# Altium schematic symbol library WR-TBL_Spring Clamp.SchLib: 257 symbols (part 1 of 4)
Pins are listed as number, name and electrical type; pins without a type are passive.

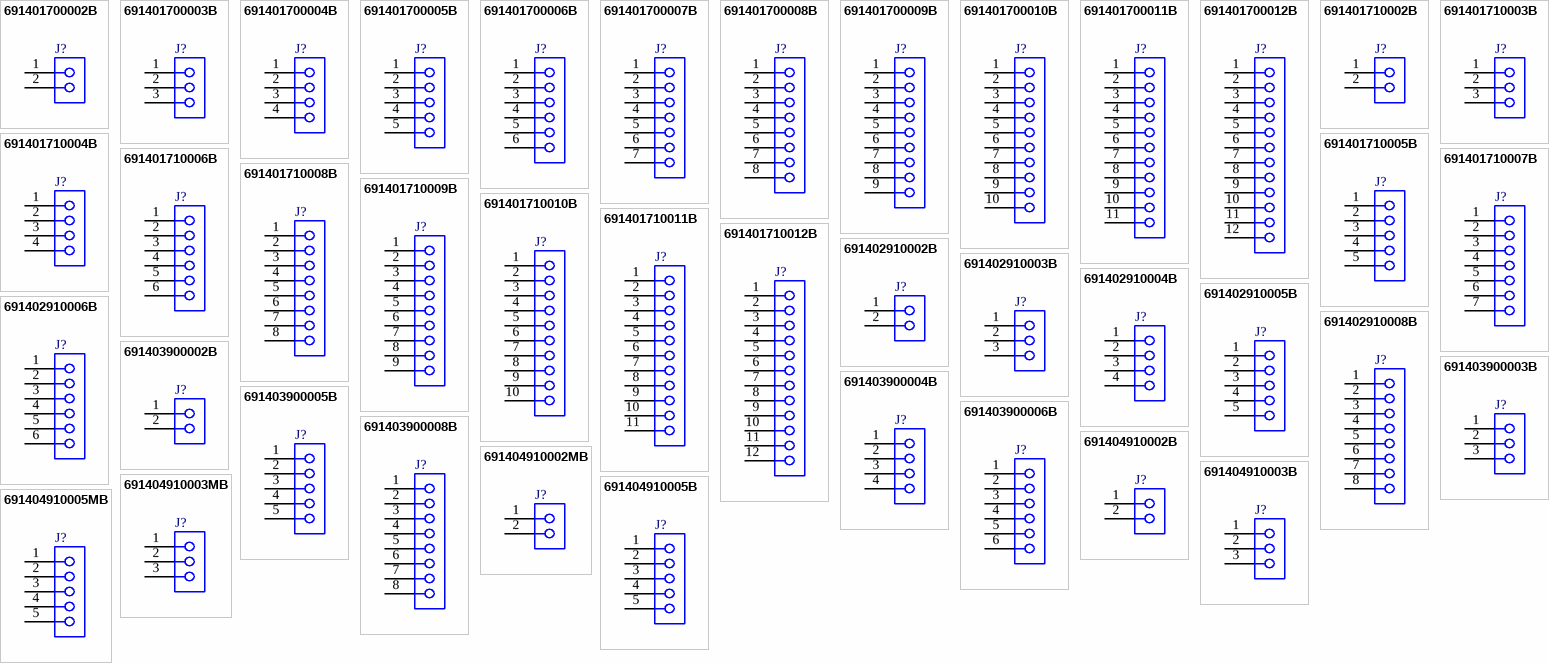
[diagram p0: symbols 691401700002B to 691404910005MB]

## 691401700002B
designator J?
WR-TBL Serie 401B Vertical Entry, Screwless, pitch 5mm, 2p; Part Number: 691401700002B; Compliance: RoHS; Modularity: No; PCB/Cable/Panel: PCB; Pin Number: 2; Rated Current [UL]: 10A; Working Voltage [UL]: 300VAC; ComponentLink1Description: Manufacturer; ComponentLink1URL: http://www.we-online.de; ComponentLink2URL: https://katalog.we-online.de/em/datasheet/691401700002B.pdf; ComponentLink2Description: Datasheet; Mounting Technology: THT; Packaging: Box; Operating Temperature: -40 to +105degC; Pitch: 5mm; Published Date: October 2019; Type: Vertical; Publisher: Wurth Elektronik; Application: Screwless
footprint 691401700002B
pins: 1, 2

## 691401700003B
designator J?
WR-TBL Serie 401B Vertical Entry, Screwless, pitch 5mm, 3p; Part Number: 691401700003B; Compliance: RoHS; Modularity: No; PCB/Cable/Panel: PCB; Pin Number: 3; Rated Current [UL]: 10A; Working Voltage [UL]: 300VAC; ComponentLink1Description: Manufacturer; ComponentLink1URL: http://www.we-online.de; ComponentLink2URL: https://katalog.we-online.de/em/datasheet/691401700003B.pdf; ComponentLink2Description: Datasheet; Mounting Technology: THT; Packaging: Box; Operating Temperature: -40 to +105degC; Pitch: 5mm; Published Date: October 2019; Type: Vertical; Publisher: Wurth Elektronik; Application: Screwless
footprint 691401700003B
pins: 1, 2, 3

## 691401700004B
designator J?
WR-TBL Serie 401B Vertical Entry, Screwless, pitch 5mm, 4p; Part Number: 691401700004B; Compliance: RoHS; Modularity: No; PCB/Cable/Panel: PCB; Pin Number: 4; Rated Current [UL]: 10A; Working Voltage [UL]: 300VAC; ComponentLink1Description: Manufacturer; ComponentLink1URL: http://www.we-online.de; ComponentLink2URL: https://katalog.we-online.de/em/datasheet/691401700004B.pdf; ComponentLink2Description: Datasheet; Mounting Technology: THT; Packaging: Box; Operating Temperature: -40 to +105degC; Pitch: 5mm; Published Date: October 2019; Type: Vertical; Publisher: Wurth Elektronik; Application: Screwless
footprint 691401700004B
pins: 1, 2, 3, 4

## 691401700005B
designator J?
WR-TBL Serie 401B Vertical Entry, Screwless, pitch 5mm, 5p; Part Number: 691401700005B; Compliance: RoHS; Modularity: No; PCB/Cable/Panel: PCB; Pin Number: 5; Rated Current [UL]: 10A; Working Voltage [UL]: 300VAC; ComponentLink1Description: Manufacturer; ComponentLink1URL: http://www.we-online.de; ComponentLink2URL: https://katalog.we-online.de/em/datasheet/691401700005B.pdf; ComponentLink2Description: Datasheet; Mounting Technology: THT; Packaging: Box; Operating Temperature: -40 to +105degC; Pitch: 5mm; Published Date: October 2019; Type: Vertical; Publisher: Wurth Elektronik; Application: Screwless
footprint 691401700005B
pins: 1, 2, 3, 4, 5

## 691401700006B
designator J?
WR-TBL Serie 401B Vertical Entry, Screwless, pitch 5mm, 6p; Part Number: 691401700006B; Compliance: RoHS; Modularity: No; PCB/Cable/Panel: PCB; Pin Number: 6; Rated Current [UL]: 10A; Working Voltage [UL]: 300VAC; ComponentLink1Description: Manufacturer; ComponentLink1URL: http://www.we-online.de; ComponentLink2URL: https://katalog.we-online.de/em/datasheet/691401700006B.pdf; ComponentLink2Description: Datasheet; Mounting Technology: THT; Packaging: Box; Operating Temperature: -40 to +105degC; Pitch: 5mm; Published Date: October 2019; Type: Vertical; Publisher: Wurth Elektronik; Application: Screwless
footprint 691401700006B
pins: 1, 2, 3, 4, 5, 6

## 691401700007B
designator J?
WR-TBL Serie 401B Vertical Entry, Screwless, pitch 5mm, 7p; Part Number: 691401700007B; Compliance: RoHS; Modularity: No; PCB/Cable/Panel: PCB; Pin Number: 7; Rated Current [UL]: 10A; Working Voltage [UL]: 300VAC; ComponentLink1Description: Manufacturer; ComponentLink1URL: http://www.we-online.de; ComponentLink2URL: https://katalog.we-online.de/em/datasheet/691401700007B.pdf; ComponentLink2Description: Datasheet; Mounting Technology: THT; Packaging: Box; Operating Temperature: -40 to +105degC; Pitch: 5mm; Published Date: October 2019; Type: Vertical; Publisher: Wurth Elektronik; Application: Screwless
footprint 691401700007B
pins: 1, 2, 3, 4, 5, 6, 7

## 691401700008B
designator J?
WR-TBL Serie 401B Vertical Entry, Screwless, pitch 5mm, 8p; Part Number: 691401700008B; Compliance: RoHS; Modularity: No; PCB/Cable/Panel: PCB; Pin Number: 8; Rated Current [UL]: 10A; Working Voltage [UL]: 300VAC; ComponentLink1Description: Manufacturer; ComponentLink1URL: http://www.we-online.de; ComponentLink2URL: https://katalog.we-online.de/em/datasheet/691401700008B.pdf; ComponentLink2Description: Datasheet; Mounting Technology: THT; Packaging: Box; Operating Temperature: -40 to +105degC; Pitch: 5mm; Published Date: October 2019; Type: Vertical; Publisher: Wurth Elektronik; Application: Screwless
footprint 691401700008B
pins: 1, 2, 3, 4, 5, 6, 7, 8

## 691401700009B
designator J?
WR-TBL Serie 401B Vertical Entry, Screwless, pitch 5mm, 9p; Part Number: 691401700009B; Compliance: RoHS; Modularity: No; PCB/Cable/Panel: PCB; Pin Number: 9; Rated Current [UL]: 10A; Working Voltage [UL]: 300VAC; ComponentLink1Description: Manufacturer; ComponentLink1URL: http://www.we-online.de; ComponentLink2URL: https://katalog.we-online.de/em/datasheet/691401700009B.pdf; ComponentLink2Description: Datasheet; Mounting Technology: THT; Packaging: Box; Operating Temperature: -40 to +105degC; Pitch: 5mm; Published Date: October 2019; Type: Vertical; Publisher: Wurth Elektronik; Application: Screwless
footprint 691401700009B
pins: 1, 2, 3, 4, 5, 6, 7, 8, 9

## 691401700010B
designator J?
WR-TBL Serie 401B Vertical Entry, Screwless, pitch 5mm, 10p; Part Number: 691401700010B; Compliance: RoHS; Modularity: No; PCB/Cable/Panel: PCB; Pin Number: 10; Rated Current [UL]: 10A; Working Voltage [UL]: 300VAC; ComponentLink1Description: Manufacturer; ComponentLink1URL: http://www.we-online.de; ComponentLink2URL: https://katalog.we-online.de/em/datasheet/691401700010B.pdf; ComponentLink2Description: Datasheet; Mounting Technology: THT; Packaging: Box; Operating Temperature: -40 to +105degC; Pitch: 5mm; Published Date: October 2019; Type: Vertical; Publisher: Wurth Elektronik; Application: Screwless
footprint 691401700010B
pins: 1, 2, 3, 4, 5, 6, 7, 8, 9, 10

## 691401700011B
designator J?
WR-TBL Serie 401B Vertical Entry, Screwless, pitch 5mm, 11p; Part Number: 691401700011B; Compliance: RoHS; Modularity: No; PCB/Cable/Panel: PCB; Pin Number: 11; Rated Current [UL]: 10A; Working Voltage [UL]: 300VAC; ComponentLink1Description: Manufacturer; ComponentLink1URL: http://www.we-online.de; ComponentLink2URL: https://katalog.we-online.de/em/datasheet/691401700011B.pdf; ComponentLink2Description: Datasheet; Mounting Technology: THT; Packaging: Box; Operating Temperature: -40 to +105degC; Pitch: 5mm; Published Date: October 2019; Type: Vertical; Publisher: Wurth Elektronik; Application: Screwless
footprint 691401700011B
pins: 1, 2, 3, 4, 5, 6, 7, 8, 9, 10, 11

## 691401700012B
designator J?
WR-TBL Serie 401B Vertical Entry, Screwless, pitch 5mm, 12p; Part Number: 691401700012B; Compliance: RoHS; Modularity: No; PCB/Cable/Panel: PCB; Pin Number: 12; Rated Current [UL]: 10A; Working Voltage [UL]: 300VAC; ComponentLink1Description: Manufacturer; ComponentLink1URL: http://www.we-online.de; ComponentLink2URL: https://katalog.we-online.de/em/datasheet/691401700012B.pdf; ComponentLink2Description: Datasheet; Mounting Technology: THT; Packaging: Box; Operating Temperature: -40 to +105degC; Pitch: 5mm; Published Date: October 2019; Type: Vertical; Publisher: Wurth Elektronik; Application: Screwless
footprint 691401700012B
pins: 1, 2, 3, 4, 5, 6, 7, 8, 9, 10, 11, 12

## 691401710002B
designator J?
WR-TBL Serie 401B Horizontal Entry, Screwless, pitch 5mm, 2p; Part Number: 691401710002B; Compliance: RoHS; Modularity: No; PCB/Cable/Panel: PCB; Pin Number: 2; Rated Current [UL]: 10A; Working Voltage [UL]: 300VAC; ComponentLink1Description: Manufacturer; ComponentLink1URL: http://www.we-online.de; ComponentLink2URL: https://katalog.we-online.de/em/datasheet/691401710002B.pdf; ComponentLink2Description: Datasheet; Mounting Technology: THT; Packaging: Box; Operating Temperature: -40 to +105degC; Pitch: 5mm; Published Date: October 2019; Type: Horizontal; Publisher: Wurth Elektronik; Application: Screwless
footprint 691401710002B
pins: 1, 2

## 691401710003B
designator J?
WR-TBL Serie 401B Horizontal Entry, Screwless, pitch 5mm, 3p; Part Number: 691401710003B; Compliance: RoHS; Modularity: No; PCB/Cable/Panel: PCB; Pin Number: 3; Rated Current [UL]: 10A; Working Voltage [UL]: 300VAC; ComponentLink1Description: Manufacturer; ComponentLink1URL: http://www.we-online.de; ComponentLink2URL: https://katalog.we-online.de/em/datasheet/691401710003B.pdf; ComponentLink2Description: Datasheet; Mounting Technology: THT; Packaging: Box; Operating Temperature: -40 to +105degC; Pitch: 5mm; Published Date: October 2019; Type: Horizontal; Publisher: Wurth Elektronik; Application: Screwless
footprint 691401710003B
pins: 1, 2, 3

## 691401710004B
designator J?
WR-TBL Serie 401B Horizontal Entry, Screwless, pitch 5mm, 4p; Part Number: 691401710004B; Compliance: RoHS; Modularity: No; PCB/Cable/Panel: PCB; Pin Number: 4; Rated Current [UL]: 10A; Working Voltage [UL]: 300VAC; ComponentLink1Description: Manufacturer; ComponentLink1URL: http://www.we-online.de; ComponentLink2URL: https://katalog.we-online.de/em/datasheet/691401710004B.pdf; ComponentLink2Description: Datasheet; Mounting Technology: THT; Packaging: Box; Operating Temperature: -40 to +105degC; Pitch: 5mm; Published Date: October 2019; Type: Horizontal; Publisher: Wurth Elektronik; Application: Screwless
footprint 691401710004B
pins: 1, 2, 3, 4

## 691401710005B
designator J?
WR-TBL Serie 401B Horizontal Entry, Screwless, pitch 5mm, 5p; Part Number: 691401710005B; Compliance: RoHS; Modularity: No; PCB/Cable/Panel: PCB; Pin Number: 5; Rated Current [UL]: 10A; Working Voltage [UL]: 300VAC; ComponentLink1Description: Manufacturer; ComponentLink1URL: http://www.we-online.de; ComponentLink2URL: https://katalog.we-online.de/em/datasheet/691401710005B.pdf; ComponentLink2Description: Datasheet; Mounting Technology: THT; Packaging: Box; Operating Temperature: -40 to +105degC; Pitch: 5mm; Published Date: October 2019; Type: Horizontal; Publisher: Wurth Elektronik; Application: Screwless
footprint 691401710005B
pins: 1, 2, 3, 4, 5

## 691401710006B
designator J?
WR-TBL Serie 401B Horizontal Entry, Screwless, pitch 5mm, 6p; Part Number: 691401710006B; Compliance: RoHS; Modularity: No; PCB/Cable/Panel: PCB; Pin Number: 6; Rated Current [UL]: 10A; Working Voltage [UL]: 300VAC; ComponentLink1Description: Manufacturer; ComponentLink1URL: http://www.we-online.de; ComponentLink2URL: https://katalog.we-online.de/em/datasheet/691401710006B.pdf; ComponentLink2Description: Datasheet; Mounting Technology: THT; Packaging: Box; Operating Temperature: -40 to +105degC; Pitch: 5mm; Published Date: October 2019; Type: Horizontal; Publisher: Wurth Elektronik; Application: Screwless
footprint 691401710006B
pins: 1, 2, 3, 4, 5, 6

## 691401710007B
designator J?
WR-TBL Serie 401B Horizontal Entry, Screwless, pitch 5mm, 7p; Part Number: 691401710007B; Compliance: RoHS; Modularity: No; PCB/Cable/Panel: PCB; Pin Number: 7; Rated Current [UL]: 10A; Working Voltage [UL]: 300VAC; ComponentLink1Description: Manufacturer; ComponentLink1URL: http://www.we-online.de; ComponentLink2URL: https://katalog.we-online.de/em/datasheet/691401710007B.pdf; ComponentLink2Description: Datasheet; Mounting Technology: THT; Packaging: Box; Operating Temperature: -40 to +105degC; Pitch: 5mm; Published Date: October 2019; Type: Horizontal; Publisher: Wurth Elektronik; Application: Screwless
footprint 691401710007B
pins: 1, 2, 3, 4, 5, 6, 7

## 691401710008B
designator J?
WR-TBL Serie 401B Horizontal Entry, Screwless, pitch 5mm, 8p; Part Number: 691401710008B; Compliance: RoHS; Modularity: No; PCB/Cable/Panel: PCB; Pin Number: 8; Rated Current [UL]: 10A; Working Voltage [UL]: 300VAC; ComponentLink1Description: Manufacturer; ComponentLink1URL: http://www.we-online.de; ComponentLink2URL: https://katalog.we-online.de/em/datasheet/691401710008B.pdf; ComponentLink2Description: Datasheet; Mounting Technology: THT; Packaging: Box; Operating Temperature: -40 to +105degC; Pitch: 5mm; Published Date: October 2019; Type: Horizontal; Publisher: Wurth Elektronik; Application: Screwless
footprint 691401710008B
pins: 1, 2, 3, 4, 5, 6, 7, 8

## 691401710009B
designator J?
WR-TBL Serie 401B Horizontal Entry, Screwless, pitch 5mm, 9p; Part Number: 691401710009B; Compliance: RoHS; Modularity: No; PCB/Cable/Panel: PCB; Pin Number: 9; Rated Current [UL]: 10A; Working Voltage [UL]: 300VAC; ComponentLink1Description: Manufacturer; ComponentLink1URL: http://www.we-online.de; ComponentLink2URL: https://katalog.we-online.de/em/datasheet/691401710009B.pdf; ComponentLink2Description: Datasheet; Mounting Technology: THT; Packaging: Box; Operating Temperature: -40 to +105degC; Pitch: 5mm; Published Date: October 2019; Type: Horizontal; Publisher: Wurth Elektronik; Application: Screwless
footprint 691401710009B
pins: 1, 2, 3, 4, 5, 6, 7, 8, 9

## 691401710010B
designator J?
WR-TBL Serie 401B Horizontal Entry, Screwless, pitch 5mm, 10p; Part Number: 691401710010B; Compliance: RoHS; Modularity: No; PCB/Cable/Panel: PCB; Pin Number: 10; Rated Current [UL]: 10A; Working Voltage [UL]: 300VAC; ComponentLink1Description: Manufacturer; ComponentLink1URL: http://www.we-online.de; ComponentLink2URL: https://katalog.we-online.de/em/datasheet/691401710010B.pdf; ComponentLink2Description: Datasheet; Mounting Technology: THT; Packaging: Box; Operating Temperature: -40 to +105degC; Pitch: 5mm; Published Date: October 2019; Type: Horizontal; Publisher: Wurth Elektronik; Application: Screwless
footprint 691401710010B
pins: 1, 2, 3, 4, 5, 6, 7, 8, 9, 10

## 691401710011B
designator J?
WR-TBL Serie 401B Horizontal Entry, Screwless, pitch 5mm, 11p; Part Number: 691401710011B; Compliance: RoHS; Modularity: No; PCB/Cable/Panel: PCB; Pin Number: 11; Rated Current [UL]: 10A; Working Voltage [UL]: 300VAC; ComponentLink1Description: Manufacturer; ComponentLink1URL: http://www.we-online.de; ComponentLink2URL: https://katalog.we-online.de/em/datasheet/691401710011B.pdf; ComponentLink2Description: Datasheet; Mounting Technology: THT; Packaging: Box; Operating Temperature: -40 to +105degC; Pitch: 5mm; Published Date: October 2019; Type: Horizontal; Publisher: Wurth Elektronik; Application: Screwless
footprint 691401710011B
pins: 1, 2, 3, 4, 5, 6, 7, 8, 9, 10, 11

## 691401710012B
designator J?
WR-TBL Serie 401B Horizontal Entry, Screwless, pitch 5mm, 12p; Part Number: 691401710012B; Compliance: RoHS; Modularity: No; PCB/Cable/Panel: PCB; Pin Number: 12; Rated Current [UL]: 10A; Working Voltage [UL]: 300VAC; ComponentLink1Description: Manufacturer; ComponentLink1URL: http://www.we-online.de; ComponentLink2URL: https://katalog.we-online.de/em/datasheet/691401710012B.pdf; ComponentLink2Description: Datasheet; Mounting Technology: THT; Packaging: Box; Operating Temperature: -40 to +105degC; Pitch: 5mm; Published Date: October 2019; Type: Horizontal; Publisher: Wurth Elektronik; Application: Screwless
footprint 691401710012B
pins: 1, 2, 3, 4, 5, 6, 7, 8, 9, 10, 11, 12

## 691402910002B
designator J?
WR-TBL Serie 4029 Horizontal Entry, Screwless, pitch 2.54mm, 2p; Part Number: 691402910002B; Compliance: RoHS; Modularity: No; PCB/Cable/Panel: PCB; Pin Number: 2; Rated Current [UL]: 6A; Working Voltage [UL]: 150VAC; ComponentLink1Description: Manufacturer; ComponentLink1URL: http://www.we-online.de; ComponentLink2URL: https://katalog.we-online.de/em/datasheet/691402910002B.pdf; ComponentLink2Description: Datasheet; Mounting Technology: THT; Packaging: Box; Operating Temperature: -40 to +105degC; Pitch: 2.54mm; Published Date: October 2019; Type: Horizontal; Publisher: Wurth Elektronik; Application: Screwless
footprint 691402910002B
pins: 1, 2

## 691402910003B
designator J?
WR-TBL Serie 4029 Horizontal Entry, Screwless, pitch 2.54mm, 3p; Part Number: 691402910003B; Compliance: RoHS; Modularity: No; PCB/Cable/Panel: PCB; Pin Number: 3; Rated Current [UL]: 6A; Working Voltage [UL]: 150VAC; ComponentLink1Description: Manufacturer; ComponentLink1URL: http://www.we-online.de; ComponentLink2URL: https://katalog.we-online.de/em/datasheet/691402910003B.pdf; ComponentLink2Description: Datasheet; Mounting Technology: THT; Packaging: Box; Operating Temperature: -40 to +105degC; Pitch: 2.54mm; Published Date: October 2019; Type: Horizontal; Publisher: Wurth Elektronik; Application: Screwless
footprint 691402910003B
pins: 1, 2, 3

## 691402910004B
designator J?
WR-TBL Serie 4029 Horizontal Entry, Screwless, pitch 2.54mm, 4p; Part Number: 691402910004B; Compliance: RoHS; Modularity: No; PCB/Cable/Panel: PCB; Pin Number: 4; Rated Current [UL]: 6A; Working Voltage [UL]: 150VAC; ComponentLink1Description: Manufacturer; ComponentLink1URL: http://www.we-online.de; ComponentLink2URL: https://katalog.we-online.de/em/datasheet/691402910004B.pdf; ComponentLink2Description: Datasheet; Mounting Technology: THT; Packaging: Box; Operating Temperature: -40 to +105degC; Pitch: 2.54mm; Published Date: October 2019; Type: Horizontal; Publisher: Wurth Elektronik; Application: Screwless
footprint 691402910004B
pins: 1, 2, 3, 4

## 691402910005B
designator J?
WR-TBL Serie 4029 Horizontal Entry, Screwless, pitch 2.54mm, 5p; Part Number: 691402910005B; Compliance: RoHS; Modularity: No; PCB/Cable/Panel: PCB; Pin Number: 5; Rated Current [UL]: 6A; Working Voltage [UL]: 150VAC; ComponentLink1Description: Manufacturer; ComponentLink1URL: http://www.we-online.de; ComponentLink2URL: https://katalog.we-online.de/em/datasheet/691402910005B.pdf; ComponentLink2Description: Datasheet; Mounting Technology: THT; Packaging: Box; Operating Temperature: -40 to +105degC; Pitch: 2.54mm; Published Date: October 2019; Type: Horizontal; Publisher: Wurth Elektronik; Application: Screwless
footprint 691402910005B
pins: 1, 2, 3, 4, 5

## 691402910006B
designator J?
WR-TBL Serie 4029 Horizontal Entry, Screwless, pitch 2.54mm, 6p; Part Number: 691402910006B; Compliance: RoHS; Modularity: No; PCB/Cable/Panel: PCB; Pin Number: 6; Rated Current [UL]: 6A; Working Voltage [UL]: 150VAC; ComponentLink1Description: Manufacturer; ComponentLink1URL: http://www.we-online.de; ComponentLink2URL: https://katalog.we-online.de/em/datasheet/691402910006B.pdf; ComponentLink2Description: Datasheet; Mounting Technology: THT; Packaging: Box; Operating Temperature: -40 to +105degC; Pitch: 2.54mm; Published Date: October 2019; Type: Horizontal; Publisher: Wurth Elektronik; Application: Screwless
footprint 691402910006B
pins: 1, 2, 3, 4, 5, 6

## 691402910008B
designator J?
WR-TBL Serie 4029 Horizontal Entry, Screwless, pitch 2.54mm, 8p; Part Number: 691402910008B; Compliance: RoHS; Modularity: No; PCB/Cable/Panel: PCB; Pin Number: 8; Rated Current [UL]: 6A; Working Voltage [UL]: 150VAC; ComponentLink1Description: Manufacturer; ComponentLink1URL: http://www.we-online.de; ComponentLink2URL: https://katalog.we-online.de/em/datasheet/691402910008B.pdf; ComponentLink2Description: Datasheet; Mounting Technology: THT; Packaging: Box; Operating Temperature: -40 to +105degC; Pitch: 2.54mm; Published Date: October 2019; Type: Horizontal; Publisher: Wurth Elektronik; Application: Screwless
footprint 691402910008B
pins: 1, 2, 3, 4, 5, 6, 7, 8

## 691403900002B
designator J?
WR-TBL Serie 4039 Vertical Entry, Screwless, pitch 2.54mm, 2p; Part Number: 691403900002B; Compliance: RoHS; Modularity: No; PCB/Cable/Panel: PCB; Pin Number: 2; Rated Current [UL]: 6A; Working Voltage [UL]: 150VAC; ComponentLink1Description: Manufacturer; ComponentLink1URL: http://www.we-online.de; ComponentLink2URL: https://katalog.we-online.de/em/datasheet/691403900002B.pdf; ComponentLink2Description: Datasheet; Mounting Technology: THT; Packaging: Box; Operating Temperature: -40 to +105degC; Pitch: 2.54mm; Published Date: October 2019; Type: Vertical; Publisher: Wurth Elektronik; Application: Screwless
footprint 691403900002B
pins: 1, 2

## 691403900003B
designator J?
WR-TBL Serie 4039 Vertical Entry, Screwless, pitch 2.54mm, 3p; Part Number: 691403900003B; Compliance: RoHS; Modularity: No; PCB/Cable/Panel: PCB; Pin Number: 3; Rated Current [UL]: 6A; Working Voltage [UL]: 150VAC; ComponentLink1Description: Manufacturer; ComponentLink1URL: http://www.we-online.de; ComponentLink2URL: https://katalog.we-online.de/em/datasheet/691403900003B.pdf; ComponentLink2Description: Datasheet; Mounting Technology: THT; Packaging: Box; Operating Temperature: -40 to +105degC; Pitch: 2.54mm; Published Date: October 2019; Type: Vertical; Publisher: Wurth Elektronik; Application: Screwless
footprint 691403900003B
pins: 1, 2, 3

## 691403900004B
designator J?
WR-TBL Serie 4039 Vertical Entry, Screwless, pitch 2.54mm, 4p; Part Number: 691403900004B; Compliance: RoHS; Modularity: No; PCB/Cable/Panel: PCB; Pin Number: 4; Rated Current [UL]: 6A; Working Voltage [UL]: 150VAC; ComponentLink1Description: Manufacturer; ComponentLink1URL: http://www.we-online.de; ComponentLink2URL: https://katalog.we-online.de/em/datasheet/691403900004B.pdf; ComponentLink2Description: Datasheet; Mounting Technology: THT; Packaging: Box; Operating Temperature: -40 to +105degC; Pitch: 2.54mm; Published Date: October 2019; Type: Vertical; Publisher: Wurth Elektronik; Application: Screwless
footprint 691403900004B
pins: 1, 2, 3, 4

## 691403900005B
designator J?
WR-TBL Serie 4039 Vertical Entry, Screwless, pitch 2.54mm, 5p; Part Number: 691403900005B; Compliance: RoHS; Modularity: No; PCB/Cable/Panel: PCB; Pin Number: 5; Rated Current [UL]: 6A; Working Voltage [UL]: 150VAC; ComponentLink1Description: Manufacturer; ComponentLink1URL: http://www.we-online.de; ComponentLink2URL: https://katalog.we-online.de/em/datasheet/691403900005B.pdf; ComponentLink2Description: Datasheet; Mounting Technology: THT; Packaging: Box; Operating Temperature: -40 to +105degC; Pitch: 2.54mm; Published Date: October 2019; Type: Vertical; Publisher: Wurth Elektronik; Application: Screwless
footprint 691403900005B
pins: 1, 2, 3, 4, 5

## 691403900006B
designator J?
WR-TBL Serie 4039 Vertical Entry, Screwless, pitch 2.54mm, 6p; Part Number: 691403900006B; Compliance: RoHS; Modularity: No; PCB/Cable/Panel: PCB; Pin Number: 6; Rated Current [UL]: 6A; Working Voltage [UL]: 150VAC; ComponentLink1Description: Manufacturer; ComponentLink1URL: http://www.we-online.de; ComponentLink2URL: https://katalog.we-online.de/em/datasheet/691403900006B.pdf; ComponentLink2Description: Datasheet; Mounting Technology: THT; Packaging: Box; Operating Temperature: -40 to +105degC; Pitch: 2.54mm; Published Date: October 2019; Type: Vertical; Publisher: Wurth Elektronik; Application: Screwless
footprint 691403900006B
pins: 1, 2, 3, 4, 5, 6

## 691403900008B
designator J?
WR-TBL Serie 4039 Vertical Entry, Screwless, pitch 2.54mm, 8p; Part Number: 691403900008B; Compliance: RoHS; Modularity: No; PCB/Cable/Panel: PCB; Pin Number: 8; Rated Current [UL]: 6A; Working Voltage [UL]: 150VAC; ComponentLink1Description: Manufacturer; ComponentLink1URL: http://www.we-online.de; ComponentLink2URL: https://katalog.we-online.de/em/datasheet/691403900008B.pdf; ComponentLink2Description: Datasheet; Mounting Technology: THT; Packaging: Box; Operating Temperature: -40 to +105degC; Pitch: 2.54mm; Published Date: October 2019; Type: Vertical; Publisher: Wurth Elektronik; Application: Screwless
footprint 691403900008B
pins: 1, 2, 3, 4, 5, 6, 7, 8

## 691404910002B
designator J?
WR-TBL Serie 4049B Horizontal Power Connector, Screwless, pitch 7.5mm, 2p; Part Number: 691404910002B; Compliance: Lead free / RoHS; Modularity: No; PCB/Cable/Panel: PCB; Pin Number: 2; Rated Current [UL]: 30A; Working Voltage [UL]: 600VAC; ComponentLink1Description: Manufacturer; ComponentLink1URL: http://www.we-online.de; ComponentLink2URL: https://katalog.we-online.de/em/datasheet/691404910002B.pdf; ComponentLink2Description: Datasheet; Mounting Technology: THT; Packaging: Box; Operating Temperature: -40 to +105degC; Pitch: 7.5mm; Published Date: October 2019; Type: Horizontal Power Connector; Publisher: Wurth Elektronik; Application: Screwless
footprint 691404910002B
pins: 1, 2

## 691404910002MB
designator J?
WR-TBL Serie 4049MB Horizontal Power Connector, Screwless, pitch 7.5mm, 2p; Part Number: 691404910002MB; Compliance: Lead free / RoHS; Modularity: No; PCB/Cable/Panel: PCB; Pin Number: 2; Rated Current [UL]: 30A; Working Voltage [UL]: 600VAC; ComponentLink1Description: Manufacturer; ComponentLink1URL: http://www.we-online.de; ComponentLink2URL: https://katalog.we-online.de/em/datasheet/691404910002MB.pdf; ComponentLink2Description: Datasheet; Mounting Technology: THT; Packaging: Box; Operating Temperature: -40 to +105degC; Pitch: 7.5mm; Published Date: October 2019; Type: Horizontal Power Connector; Publisher: Wurth Elektronik; Application: Screwless
footprint 691404910002MB
pins: 1, 2

## 691404910003B
designator J?
WR-TBL Serie 4049B Horizontal Power Connector, Screwless, pitch 7.5mm, 3p; Part Number: 691404910003B; Compliance: Lead free / RoHS; Modularity: No; PCB/Cable/Panel: PCB; Pin Number: 3; Rated Current [UL]: 30A; Working Voltage [UL]: 600VAC; ComponentLink1Description: Manufacturer; ComponentLink1URL: http://www.we-online.de; ComponentLink2URL: https://katalog.we-online.de/em/datasheet/691404910003B.pdf; ComponentLink2Description: Datasheet; Mounting Technology: THT; Packaging: Box; Operating Temperature: -40 to +105degC; Pitch: 7.5mm; Published Date: October 2019; Type: Horizontal Power Connector; Publisher: Wurth Elektronik; Application: Screwless
footprint 691404910003B
pins: 1, 2, 3

## 691404910003MB
designator J?
WR-TBL Serie 4049MB Horizontal Power Connector, Screwless, pitch 7.5mm, 3p; Part Number: 691404910003MB; Compliance: Lead free / RoHS; Modularity: No; PCB/Cable/Panel: PCB; Pin Number: 3; Rated Current [UL]: 30A; Working Voltage [UL]: 600VAC; ComponentLink1Description: Manufacturer; ComponentLink1URL: http://www.we-online.de; ComponentLink2URL: https://katalog.we-online.de/em/datasheet/691404910003MB.pdf; ComponentLink2Description: Datasheet; Mounting Technology: THT; Packaging: Box; Operating Temperature: -40 to +105degC; Pitch: 7.5mm; Published Date: October 2019; Type: Horizontal Power Connector; Publisher: Wurth Elektronik; Application: Screwless
footprint 691404910003MB
pins: 1, 2, 3

## 691404910005B
designator J?
WR-TBL Serie 4049B Horizontal Power Connector, Screwless, pitch 7.5mm, 5p; Part Number: 691404910005B; Compliance: Lead free / RoHS; Modularity: No; PCB/Cable/Panel: PCB; Pin Number: 5; Rated Current [UL]: 30A; Working Voltage [UL]: 600VAC; ComponentLink1Description: Manufacturer; ComponentLink1URL: http://www.we-online.de; ComponentLink2URL: https://katalog.we-online.de/em/datasheet/691404910005B.pdf; ComponentLink2Description: Datasheet; Mounting Technology: THT; Packaging: Box; Operating Temperature: -40 to +105degC; Pitch: 7.5mm; Published Date: October 2019; Type: Horizontal Power Connector; Publisher: Wurth Elektronik; Application: Screwless
footprint 691404910005B
pins: 1, 2, 3, 4, 5

## 691404910005MB
designator J?
WR-TBL Serie 4049MB Horizontal Power Connector, Screwless, pitch 7.5mm, 5p; Part Number: 691404910005MB; Compliance: Lead free / RoHS; Modularity: No; PCB/Cable/Panel: PCB; Pin Number: 5; Rated Current [UL]: 30A; Working Voltage [UL]: 600VAC; ComponentLink1Description: Manufacturer; ComponentLink1URL: http://www.we-online.de; ComponentLink2URL: https://katalog.we-online.de/em/datasheet/691404910005MB.pdf; ComponentLink2Description: Datasheet; Mounting Technology: THT; Packaging: Box; Operating Temperature: -40 to +105degC; Pitch: 7.5mm; Published Date: October 2019; Type: Horizontal Power Connector; Publisher: Wurth Elektronik; Application: Screwless
footprint 691404910005MB
pins: 1, 2, 3, 4, 5

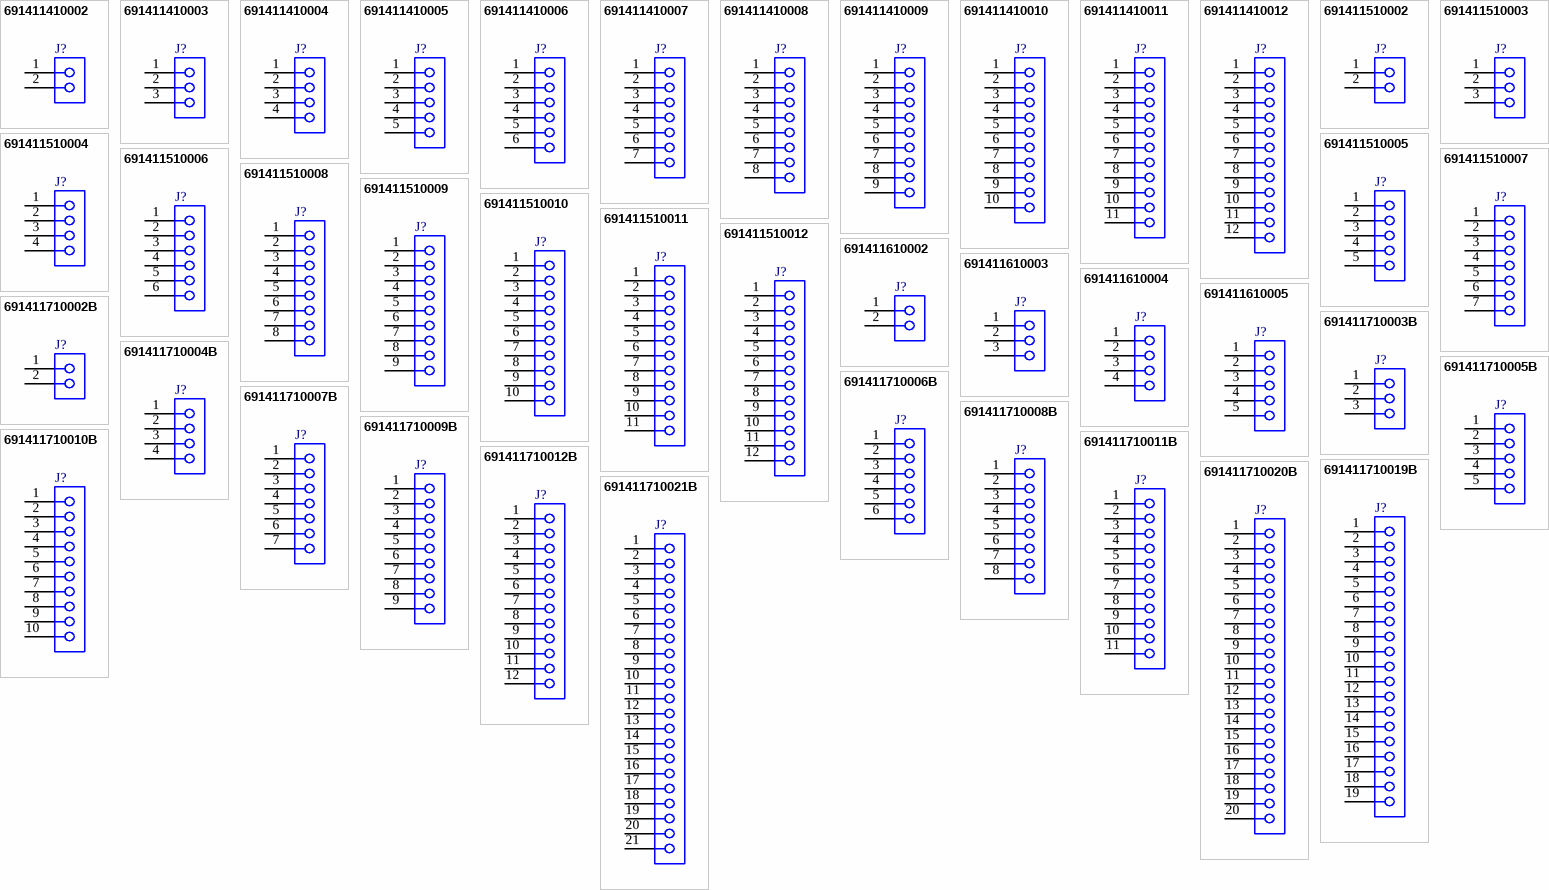
[diagram p1: symbols 691411410002 to 691411710021B]

## 691411410002
designator J?
WR-TBL Serie 4114 Horizontal Cable Entry, Screwless, pitch 7.62mm, 2p; Part Number: 691411410002; Compliance: Lead free / RoHS; Modularity: No; PCB/Cable/Panel: PCB; Pin Number: 2; Rated Current [UL]: 10A; Working Voltage [UL]: 300VAC; ComponentLink1Description: Manufacturer; ComponentLink1URL: http://www.we-online.de; ComponentLink2URL: https://katalog.we-online.de/em/datasheet/691411410002.pdf; ComponentLink2Description: Datasheet; Mounting Technology: THT; Packaging: Box; Operating Temperature: -30 to +120degC; Pitch: 7.62mm; Published Date: October 2019; Type: Horizontal; Publisher: Wurth Elektronik; Application: Screwless
footprint 691411410002
pins: 1, 2

## 691411410003
designator J?
WR-TBL Serie 4114 Horizontal Cable Entry, Screwless, pitch 7.62mm, 3p; Part Number: 691411410003; Compliance: Lead free / RoHS; Modularity: No; PCB/Cable/Panel: PCB; Pin Number: 3; Rated Current [UL]: 10A; Working Voltage [UL]: 300VAC; ComponentLink1Description: Manufacturer; ComponentLink1URL: http://www.we-online.de; ComponentLink2URL: https://katalog.we-online.de/em/datasheet/691411410003.pdf; ComponentLink2Description: Datasheet; Mounting Technology: THT; Packaging: Box; Operating Temperature: -30 to +120degC; Pitch: 7.62mm; Published Date: October 2019; Type: Horizontal; Publisher: Wurth Elektronik; Application: Screwless
footprint 691411410003
pins: 1, 2, 3

## 691411410004
designator J?
WR-TBL Serie 4114 Horizontal Cable Entry, Screwless, pitch 7.62mm, 4p; Part Number: 691411410004; Compliance: Lead free / RoHS; Modularity: No; PCB/Cable/Panel: PCB; Pin Number: 4; Rated Current [UL]: 10A; Working Voltage [UL]: 300VAC; ComponentLink1Description: Manufacturer; ComponentLink1URL: http://www.we-online.de; ComponentLink2URL: https://katalog.we-online.de/em/datasheet/691411410004.pdf; ComponentLink2Description: Datasheet; Mounting Technology: THT; Packaging: Box; Operating Temperature: -30 to +120degC; Pitch: 7.62mm; Published Date: October 2019; Type: Horizontal; Publisher: Wurth Elektronik; Application: Screwless
footprint 691411410004
pins: 1, 2, 3, 4

## 691411410005
designator J?
WR-TBL Serie 4114 Horizontal Cable Entry, Screwless, pitch 7.62mm, 5p; Part Number: 691411410005; Compliance: Lead free / RoHS; Modularity: No; PCB/Cable/Panel: PCB; Pin Number: 5; Rated Current [UL]: 10A; Working Voltage [UL]: 300VAC; ComponentLink1Description: Manufacturer; ComponentLink1URL: http://www.we-online.de; ComponentLink2URL: https://katalog.we-online.de/em/datasheet/691411410005.pdf; ComponentLink2Description: Datasheet; Mounting Technology: THT; Packaging: Box; Operating Temperature: -30 to +120degC; Pitch: 7.62mm; Published Date: October 2019; Type: Horizontal; Publisher: Wurth Elektronik; Application: Screwless
footprint 691411410005
pins: 1, 2, 3, 4, 5

## 691411410006
designator J?
WR-TBL Serie 4114 Horizontal Cable Entry, Screwless, pitch 7.62mm, 6p; Part Number: 691411410006; Compliance: Lead free / RoHS; Modularity: No; PCB/Cable/Panel: PCB; Pin Number: 6; Rated Current [UL]: 10A; Working Voltage [UL]: 300VAC; ComponentLink1Description: Manufacturer; ComponentLink1URL: http://www.we-online.de; ComponentLink2URL: https://katalog.we-online.de/em/datasheet/691411410006.pdf; ComponentLink2Description: Datasheet; Mounting Technology: THT; Packaging: Box; Operating Temperature: -30 to +120degC; Pitch: 7.62mm; Published Date: October 2019; Type: Horizontal; Publisher: Wurth Elektronik; Application: Screwless
footprint 691411410006
pins: 1, 2, 3, 4, 5, 6

## 691411410007
designator J?
WR-TBL Serie 4114 Horizontal Cable Entry, Screwless, pitch 7.62mm, 7p; Part Number: 691411410007; Compliance: Lead free / RoHS; Modularity: No; PCB/Cable/Panel: PCB; Pin Number: 7; Rated Current [UL]: 10A; Working Voltage [UL]: 300VAC; ComponentLink1Description: Manufacturer; ComponentLink1URL: http://www.we-online.de; ComponentLink2URL: https://katalog.we-online.de/em/datasheet/691411410007.pdf; ComponentLink2Description: Datasheet; Mounting Technology: THT; Packaging: Box; Operating Temperature: -30 to +120degC; Pitch: 7.62mm; Published Date: October 2019; Type: Horizontal; Publisher: Wurth Elektronik; Application: Screwless
footprint 691411410007
pins: 1, 2, 3, 4, 5, 6, 7

## 691411410008
designator J?
WR-TBL Serie 4114 Horizontal Cable Entry, Screwless, pitch 7.62mm, 8p; Part Number: 691411410008; Compliance: Lead free / RoHS; Modularity: No; PCB/Cable/Panel: PCB; Pin Number: 8; Rated Current [UL]: 10A; Working Voltage [UL]: 300VAC; ComponentLink1Description: Manufacturer; ComponentLink1URL: http://www.we-online.de; ComponentLink2URL: https://katalog.we-online.de/em/datasheet/691411410008.pdf; ComponentLink2Description: Datasheet; Mounting Technology: THT; Packaging: Box; Operating Temperature: -30 to +120degC; Pitch: 7.62mm; Published Date: October 2019; Type: Horizontal; Publisher: Wurth Elektronik; Application: Screwless
footprint 691411410008
pins: 1, 2, 3, 4, 5, 6, 7, 8

## 691411410009
designator J?
WR-TBL Serie 4114 Horizontal Cable Entry, Screwless, pitch 7.62mm, 9p; Part Number: 691411410009; Compliance: Lead free / RoHS; Modularity: No; PCB/Cable/Panel: PCB; Pin Number: 9; Rated Current [UL]: 10A; Working Voltage [UL]: 300VAC; ComponentLink1Description: Manufacturer; ComponentLink1URL: http://www.we-online.de; ComponentLink2URL: https://katalog.we-online.de/em/datasheet/691411410009.pdf; ComponentLink2Description: Datasheet; Mounting Technology: THT; Packaging: Box; Operating Temperature: -30 to +120degC; Pitch: 7.62mm; Published Date: October 2019; Type: Horizontal; Publisher: Wurth Elektronik; Application: Screwless
footprint 691411410009
pins: 1, 2, 3, 4, 5, 6, 7, 8, 9

## 691411410010
designator J?
WR-TBL Serie 4114 Horizontal Cable Entry, Screwless, pitch 7.62mm, 10p; Part Number: 691411410010; Compliance: Lead free / RoHS; Modularity: No; PCB/Cable/Panel: PCB; Pin Number: 10; Rated Current [UL]: 10A; Working Voltage [UL]: 300VAC; ComponentLink1Description: Manufacturer; ComponentLink1URL: http://www.we-online.de; ComponentLink2URL: https://katalog.we-online.de/em/datasheet/691411410010.pdf; ComponentLink2Description: Datasheet; Mounting Technology: THT; Packaging: Box; Operating Temperature: -30 to +120degC; Pitch: 7.62mm; Published Date: October 2019; Type: Horizontal; Publisher: Wurth Elektronik; Application: Screwless
footprint 691411410010
pins: 1, 2, 3, 4, 5, 6, 7, 8, 9, 10

## 691411410011
designator J?
WR-TBL Serie 4114 Horizontal Cable Entry, Screwless, pitch 7.62mm, 11p; Part Number: 691411410011; Compliance: Lead free / RoHS; Modularity: No; PCB/Cable/Panel: PCB; Pin Number: 11; Rated Current [UL]: 10A; Working Voltage [UL]: 300VAC; ComponentLink1Description: Manufacturer; ComponentLink1URL: http://www.we-online.de; ComponentLink2URL: https://katalog.we-online.de/em/datasheet/691411410011.pdf; ComponentLink2Description: Datasheet; Mounting Technology: THT; Packaging: Box; Operating Temperature: -30 to +120degC; Pitch: 7.62mm; Published Date: October 2019; Type: Horizontal; Publisher: Wurth Elektronik; Application: Screwless
footprint 691411410011
pins: 1, 2, 3, 4, 5, 6, 7, 8, 9, 10, 11

## 691411410012
designator J?
WR-TBL Serie 4114 Horizontal Cable Entry, Screwless, pitch 7.62mm, 12p; Part Number: 691411410012; Compliance: Lead free / RoHS; Modularity: No; PCB/Cable/Panel: PCB; Pin Number: 12; Rated Current [UL]: 10A; Working Voltage [UL]: 300VAC; ComponentLink1Description: Manufacturer; ComponentLink1URL: http://www.we-online.de; ComponentLink2URL: https://katalog.we-online.de/em/datasheet/691411410012.pdf; ComponentLink2Description: Datasheet; Mounting Technology: THT; Packaging: Box; Operating Temperature: -30 to +120degC; Pitch: 7.62mm; Published Date: October 2019; Type: Horizontal; Publisher: Wurth Elektronik; Application: Screwless
footprint 691411410012
pins: 1, 2, 3, 4, 5, 6, 7, 8, 9, 10, 11, 12

## 691411510002
designator J?
WR-TBL Serie 4115 Horizontal Entry, Screwless, pitch 5.08mm, 2p; Part Number: 691411510002; Compliance: ROHS & Reach; Modularity: No; PCB/Cable/Panel: PCB; Pin Number: 2; Rated Current [UL]: 10A; Working Voltage [UL]: 300VAC; ComponentLink1Description: Manufacturer; ComponentLink1URL: http://www.we-online.de; ComponentLink2URL: https://katalog.we-online.de/em/datasheet/691411510002.pdf; ComponentLink2Description: Datasheet; Mounting Technology: THT; Packaging: Box; Operating Temperature: -30 to +120degC; Pitch: 5.08mm; Published Date: October 2019; Type: Horizontal; Publisher: Wurth Elektronik; Application: Screwless
footprint 691411510002
pins: 1, 2

## 691411510003
designator J?
WR-TBL Serie 4115 Horizontal Entry, Screwless, pitch 5.08mm, 3p; Part Number: 691411510003; Compliance: ROHS & Reach; Modularity: No; PCB/Cable/Panel: PCB; Pin Number: 3; Rated Current [UL]: 10A; Working Voltage [UL]: 300VAC; ComponentLink1Description: Manufacturer; ComponentLink1URL: http://www.we-online.de; ComponentLink2URL: https://katalog.we-online.de/em/datasheet/691411510003.pdf; ComponentLink2Description: Datasheet; Mounting Technology: THT; Packaging: Box; Operating Temperature: -30 to +120degC; Pitch: 5.08mm; Published Date: October 2019; Type: Horizontal; Publisher: Wurth Elektronik; Application: Screwless
footprint 691411510003
pins: 1, 2, 3

## 691411510004
designator J?
WR-TBL Serie 4115 Horizontal Entry, Screwless, pitch 5.08mm, 4p; Part Number: 691411510004; Compliance: ROHS & Reach; Modularity: No; PCB/Cable/Panel: PCB; Pin Number: 4; Rated Current [UL]: 10A; Working Voltage [UL]: 300VAC; ComponentLink1Description: Manufacturer; ComponentLink1URL: http://www.we-online.de; ComponentLink2URL: https://katalog.we-online.de/em/datasheet/691411510004.pdf; ComponentLink2Description: Datasheet; Mounting Technology: THT; Packaging: Box; Operating Temperature: -30 to +120degC; Pitch: 5.08mm; Published Date: October 2019; Type: Horizontal; Publisher: Wurth Elektronik; Application: Screwless
footprint 691411510004
pins: 1, 2, 3, 4

## 691411510005
designator J?
WR-TBL Serie 4115 Horizontal Entry, Screwless, pitch 5.08mm, 5p; Part Number: 691411510005; Compliance: ROHS & Reach; Modularity: No; PCB/Cable/Panel: PCB; Pin Number: 5; Rated Current [UL]: 10A; Working Voltage [UL]: 300VAC; ComponentLink1Description: Manufacturer; ComponentLink1URL: http://www.we-online.de; ComponentLink2URL: https://katalog.we-online.de/em/datasheet/691411510005.pdf; ComponentLink2Description: Datasheet; Mounting Technology: THT; Packaging: Box; Operating Temperature: -30 to +120degC; Pitch: 5.08mm; Published Date: October 2019; Type: Horizontal; Publisher: Wurth Elektronik; Application: Screwless
footprint 691411510005
pins: 1, 2, 3, 4, 5

## 691411510006
designator J?
WR-TBL Serie 4115 Horizontal Entry, Screwless, pitch 5.08mm, 6p; Part Number: 691411510006; Compliance: ROHS & Reach; Modularity: No; PCB/Cable/Panel: PCB; Pin Number: 6; Rated Current [UL]: 10A; Working Voltage [UL]: 300VAC; ComponentLink1Description: Manufacturer; ComponentLink1URL: http://www.we-online.de; ComponentLink2URL: https://katalog.we-online.de/em/datasheet/691411510006.pdf; ComponentLink2Description: Datasheet; Mounting Technology: THT; Packaging: Box; Operating Temperature: -30 to +120degC; Pitch: 5.08mm; Published Date: October 2019; Type: Horizontal; Publisher: Wurth Elektronik; Application: Screwless
footprint 691411510006
pins: 1, 2, 3, 4, 5, 6

## 691411510007
designator J?
WR-TBL Serie 4115 Horizontal Entry, Screwless, pitch 5.08mm, 7p; Part Number: 691411510007; Compliance: ROHS & Reach; Modularity: No; PCB/Cable/Panel: PCB; Pin Number: 7; Rated Current [UL]: 10A; Working Voltage [UL]: 300VAC; ComponentLink1Description: Manufacturer; ComponentLink1URL: http://www.we-online.de; ComponentLink2URL: https://katalog.we-online.de/em/datasheet/691411510007.pdf; ComponentLink2Description: Datasheet; Mounting Technology: THT; Packaging: Box; Operating Temperature: -30 to +120degC; Pitch: 5.08mm; Published Date: October 2019; Type: Horizontal; Publisher: Wurth Elektronik; Application: Screwless
footprint 691411510007
pins: 1, 2, 3, 4, 5, 6, 7

## 691411510008
designator J?
WR-TBL Serie 4115 Horizontal Entry, Screwless, pitch 5.08mm, 8p; Part Number: 691411510008; Compliance: ROHS & Reach; Modularity: No; PCB/Cable/Panel: PCB; Pin Number: 8; Rated Current [UL]: 10A; Working Voltage [UL]: 300VAC; ComponentLink1Description: Manufacturer; ComponentLink1URL: http://www.we-online.de; ComponentLink2URL: https://katalog.we-online.de/em/datasheet/691411510008.pdf; ComponentLink2Description: Datasheet; Mounting Technology: THT; Packaging: Box; Operating Temperature: -30 to +120degC; Pitch: 5.08mm; Published Date: October 2019; Type: Horizontal; Publisher: Wurth Elektronik; Application: Screwless
footprint 691411510008
pins: 1, 2, 3, 4, 5, 6, 7, 8

## 691411510009
designator J?
WR-TBL Serie 4115 Horizontal Entry, Screwless, pitch 5.08mm, 9p; Part Number: 691411510009; Compliance: ROHS & Reach; Modularity: No; PCB/Cable/Panel: PCB; Pin Number: 9; Rated Current [UL]: 10A; Working Voltage [UL]: 300VAC; ComponentLink1Description: Manufacturer; ComponentLink1URL: http://www.we-online.de; ComponentLink2URL: https://katalog.we-online.de/em/datasheet/691411510009.pdf; ComponentLink2Description: Datasheet; Mounting Technology: THT; Packaging: Box; Operating Temperature: -30 to +120degC; Pitch: 5.08mm; Published Date: October 2019; Type: Horizontal; Publisher: Wurth Elektronik; Application: Screwless
footprint 691411510009
pins: 1, 2, 3, 4, 5, 6, 7, 8, 9

## 691411510010
designator J?
WR-TBL Serie 4115 Horizontal Entry, Screwless, pitch 5.08mm, 10p; Part Number: 691411510010; Compliance: ROHS & Reach; Modularity: No; PCB/Cable/Panel: PCB; Pin Number: 10; Rated Current [UL]: 10A; Working Voltage [UL]: 300VAC; ComponentLink1Description: Manufacturer; ComponentLink1URL: http://www.we-online.de; ComponentLink2URL: https://katalog.we-online.de/em/datasheet/691411510010.pdf; ComponentLink2Description: Datasheet; Mounting Technology: THT; Packaging: Box; Operating Temperature: -30 to +120degC; Pitch: 5.08mm; Published Date: October 2019; Type: Horizontal; Publisher: Wurth Elektronik; Application: Screwless
footprint 691411510010
pins: 1, 2, 3, 4, 5, 6, 7, 8, 9, 10

## 691411510011
designator J?
WR-TBL Serie 4115 Horizontal Entry, Screwless, pitch 5.08mm, 11p; Part Number: 691411510011; Compliance: ROHS & Reach; Modularity: No; PCB/Cable/Panel: PCB; Pin Number: 11; Rated Current [UL]: 10A; Working Voltage [UL]: 300VAC; ComponentLink1Description: Manufacturer; ComponentLink1URL: http://www.we-online.de; ComponentLink2URL: https://katalog.we-online.de/em/datasheet/691411510011.pdf; ComponentLink2Description: Datasheet; Mounting Technology: THT; Packaging: Box; Operating Temperature: -30 to +120degC; Pitch: 5.08mm; Published Date: October 2019; Type: Horizontal; Publisher: Wurth Elektronik; Application: Screwless
footprint 691411510011
pins: 1, 2, 3, 4, 5, 6, 7, 8, 9, 10, 11

## 691411510012
designator J?
WR-TBL Serie 4115 Horizontal Entry, Screwless, pitch 5.08mm, 12p; Part Number: 691411510012; Compliance: ROHS & Reach; Modularity: No; PCB/Cable/Panel: PCB; Pin Number: 12; Rated Current [UL]: 10A; Working Voltage [UL]: 300VAC; ComponentLink1Description: Manufacturer; ComponentLink1URL: http://www.we-online.de; ComponentLink2URL: https://katalog.we-online.de/em/datasheet/691411510012.pdf; ComponentLink2Description: Datasheet; Mounting Technology: THT; Packaging: Box; Operating Temperature: -30 to +120degC; Pitch: 5.08mm; Published Date: October 2019; Type: Horizontal; Publisher: Wurth Elektronik; Application: Screwless
footprint 691411510012
pins: 1, 2, 3, 4, 5, 6, 7, 8, 9, 10, 11, 12

## 691411610002
designator J?
WR-TBL Serie 4116 Horizontal Entry, Screwless, pitch 10.16mm, 2p; Part Number: 691411610002; Compliance: Lead free / RoHS; Modularity: No; PCB/Cable/Panel: PCB; Pin Number: 2; Rated Current [UL]: 10A; Working Voltage [UL]: 300VAC; ComponentLink1Description: Manufacturer; ComponentLink1URL: http://www.we-online.de; ComponentLink2URL: https://katalog.we-online.de/em/datasheet/691411610002.pdf; ComponentLink2Description: Datasheet; Mounting Technology: THT; Packaging: Box; Operating Temperature: -30 to +120degC; Pitch: 10.16mm; Published Date: October 2019; Type: Horizontal; Publisher: Wurth Elektronik; Application: Screwless
footprint 691411610002
pins: 1, 2

## 691411610003
designator J?
WR-TBL Serie 4116 Horizontal Entry, Screwless, pitch 10.16mm, 3p; Part Number: 691411610003; Compliance: Lead free / RoHS; Modularity: No; PCB/Cable/Panel: PCB; Pin Number: 3; Rated Current [UL]: 10A; Working Voltage [UL]: 300VAC; ComponentLink1Description: Manufacturer; ComponentLink1URL: http://www.we-online.de; ComponentLink2URL: https://katalog.we-online.de/em/datasheet/691411610003.pdf; ComponentLink2Description: Datasheet; Mounting Technology: THT; Packaging: Box; Operating Temperature: -30 to +120degC; Pitch: 10.16mm; Published Date: October 2019; Type: Horizontal; Publisher: Wurth Elektronik; Application: Screwless
footprint 691411610003
pins: 1, 2, 3

## 691411610004
designator J?
WR-TBL Serie 4116 Horizontal Entry, Screwless, pitch 10.16mm, 4p; Part Number: 691411610004; Compliance: Lead free / RoHS; Modularity: No; PCB/Cable/Panel: PCB; Pin Number: 4; Rated Current [UL]: 10A; Working Voltage [UL]: 300VAC; ComponentLink1Description: Manufacturer; ComponentLink1URL: http://www.we-online.de; ComponentLink2URL: https://katalog.we-online.de/em/datasheet/691411610004.pdf; ComponentLink2Description: Datasheet; Mounting Technology: THT; Packaging: Box; Operating Temperature: -30 to +120degC; Pitch: 10.16mm; Published Date: October 2019; Type: Horizontal; Publisher: Wurth Elektronik; Application: Screwless
footprint 691411610004
pins: 1, 2, 3, 4

## 691411610005
designator J?
WR-TBL Serie 4116 Horizontal Entry, Screwless, pitch 10.16mm, 5p; Part Number: 691411610005; Compliance: Lead free / RoHS; Modularity: No; PCB/Cable/Panel: PCB; Pin Number: 5; Rated Current [UL]: 10A; Working Voltage [UL]: 300VAC; ComponentLink1Description: Manufacturer; ComponentLink1URL: http://www.we-online.de; ComponentLink2URL: https://katalog.we-online.de/em/datasheet/691411610005.pdf; ComponentLink2Description: Datasheet; Mounting Technology: THT; Packaging: Box; Operating Temperature: -30 to +120degC; Pitch: 10.16mm; Published Date: October 2019; Type: Horizontal; Publisher: Wurth Elektronik; Application: Screwless
footprint 691411610005
pins: 1, 2, 3, 4, 5

## 691411710002B
designator J?
WR-TBL Serie 411B Horizontal Entry, Screwless, pitch 5mm, 2p; Part Number: 691411710002B; Compliance: RoHS; Modularity: No; PCB/Cable/Panel: PCB; Pin Number: 2; Rated Current [UL]: 10A; Working Voltage [UL]: 300VAC; ComponentLink1Description: Manufacturer; ComponentLink1URL: http://www.we-online.de; ComponentLink2URL: https://katalog.we-online.de/em/datasheet/691411710002B.pdf; ComponentLink2Description: Datasheet; Mounting Technology: THT; Packaging: Box; Operating Temperature: -40 to +105degC; Pitch: 5mm; Published Date: October 2019; Type: Horizontal; Publisher: Wurth Elektronik; Application: Screwless
footprint 691411710002B
pins: 1, 2

## 691411710003B
designator J?
WR-TBL Serie 411B Horizontal Entry, Screwless, pitch 5mm, 3p; Part Number: 691411710003B; Compliance: RoHS; Modularity: No; PCB/Cable/Panel: PCB; Pin Number: 3; Rated Current [UL]: 10A; Working Voltage [UL]: 300VAC; ComponentLink1Description: Manufacturer; ComponentLink1URL: http://www.we-online.de; ComponentLink2URL: https://katalog.we-online.de/em/datasheet/691411710003B.pdf; ComponentLink2Description: Datasheet; Mounting Technology: THT; Packaging: Box; Operating Temperature: -40 to +105degC; Pitch: 5mm; Published Date: October 2019; Type: Horizontal; Publisher: Wurth Elektronik; Application: Screwless
footprint 691411710003B
pins: 1, 2, 3

## 691411710004B
designator J?
WR-TBL Serie 411B Horizontal Entry, Screwless, pitch 5mm, 4p; Part Number: 691411710004B; Compliance: RoHS; Modularity: No; PCB/Cable/Panel: PCB; Pin Number: 4; Rated Current [UL]: 10A; Working Voltage [UL]: 300VAC; ComponentLink1Description: Manufacturer; ComponentLink1URL: http://www.we-online.de; ComponentLink2URL: https://katalog.we-online.de/em/datasheet/691411710004B.pdf; ComponentLink2Description: Datasheet; Mounting Technology: THT; Packaging: Box; Operating Temperature: -40 to +105degC; Pitch: 5mm; Published Date: October 2019; Type: Horizontal; Publisher: Wurth Elektronik; Application: Screwless
footprint 691411710004B
pins: 1, 2, 3, 4

## 691411710005B
designator J?
WR-TBL Serie 411B Horizontal Entry, Screwless, pitch 5mm, 5p; Part Number: 691411710005B; Compliance: RoHS; Modularity: No; PCB/Cable/Panel: PCB; Pin Number: 5; Rated Current [UL]: 10A; Working Voltage [UL]: 300VAC; ComponentLink1Description: Manufacturer; ComponentLink1URL: http://www.we-online.de; ComponentLink2URL: https://katalog.we-online.de/em/datasheet/691411710005B.pdf; ComponentLink2Description: Datasheet; Mounting Technology: THT; Packaging: Box; Operating Temperature: -40 to +105degC; Pitch: 5mm; Published Date: October 2019; Type: Horizontal; Publisher: Wurth Elektronik; Application: Screwless
footprint 691411710005B
pins: 1, 2, 3, 4, 5